# EAGLE library part DF9B-11 (library awqua_eagle_library)
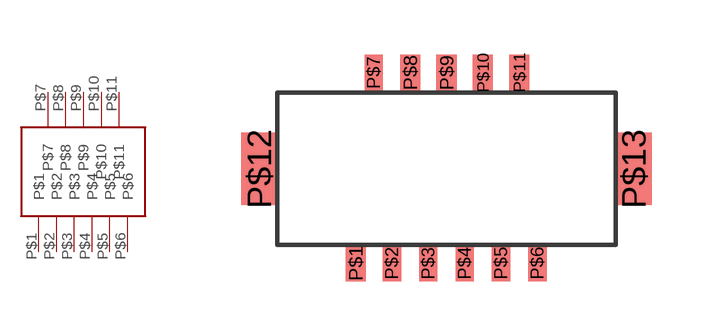
[diagram p17: symbol with the pads of DF9B-11; footprint DF9B-11]

Designator prefix -

## DF9B-11  [DF9B-11]
P$1  P$1
P$2  P$2
P$3  P$3
P$4  P$4
P$5  P$5
P$6  P$6
P$7  P$7
P$8  P$8
P$9  P$9
P$10  P$10
P$11  P$11

## Footprint DF9B-11 (pad centres in mm)
smd 0.55 x 1: P$1 2.15,-0.5; P$8 3.65,4.75; P$9 4.65,4.75; P$10 5.65,4.75; P$11 6.65,4.75
smd 0.5 x 1: P$2 3.15,-0.5; P$3 4.15,-0.5; P$4 5.15,-0.5; P$5 6.15,-0.5; P$6 7.15,-0.5; P$7 2.65,4.75
smd 1 x 2: P$12 -0.5,2.1; P$13 9.8,2.1